# EAGLE library part CHIPCAP2 (library peripheral)
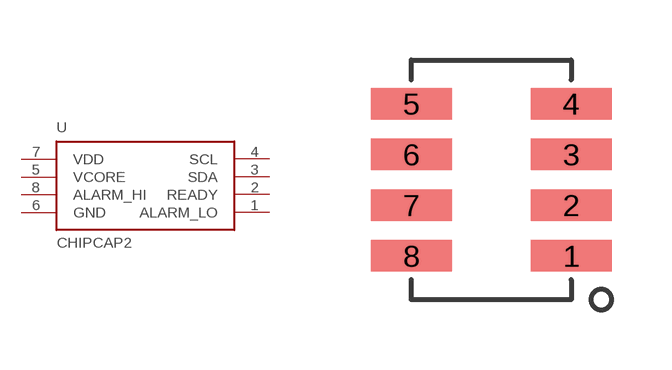
[diagram p1: symbol with the pads of CHIPCAP2; footprint CHIPCAP2]

Designator prefix U

## CHIPCAP2  [CHIPCAP2]
1  ALARM_LO
2  READY
3  SDA
4  SCL
5  VCORE
6  GND
7  VDD
8  ALARM_HI

## Footprint CHIPCAP2 (pad centres in mm)
smd 2.032 x 0.787: 1 2,-1.905; 2 2,-0.635; 3 2,0.635; 4 2,1.905; 5 -2,1.905; 6 -2,0.635; 7 -2,-0.635; 8 -2,-1.905